# EAGLE library part C64_PLA (library commodore)
Programmable Logic Array This PLA controls which parts of memory are visible to your C64. This lib is created by Ruud Baltissen.
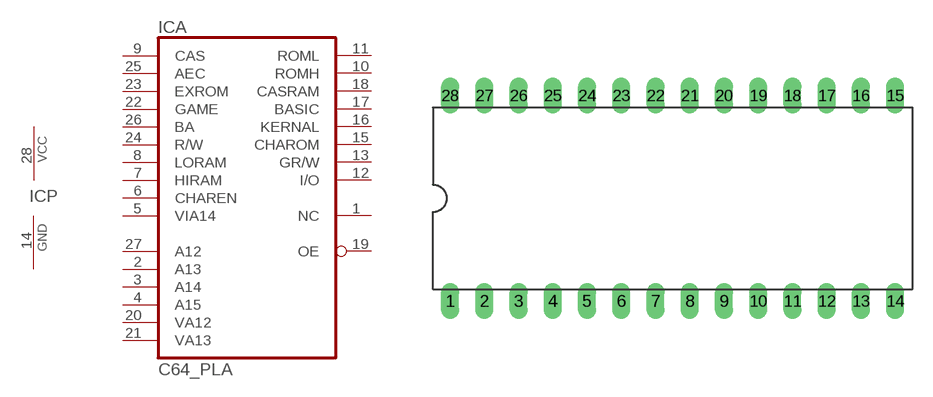
[diagram p24: symbol with the pads of DIL28; footprint DIL28]

Designator prefix IC; gates A=C64_PLA P=PWRN

## C64_PLA  [DIL28]
1  A:NC  nc
2  A:A13  in
3  A:A14  in
4  A:A15  in
5  A:VIA14  in
6  A:CHAREN  in
7  A:HIRAM  in
8  A:LORAM  in
9  A:CAS  in
10  A:ROMH  hiz
11  A:ROML  hiz
12  A:I/O  hiz
13  A:GR/W  hiz
14  P:GND  pwr
15  A:CHAROM  hiz
16  A:KERNAL  hiz
17  A:BASIC  hiz
18  A:CASRAM  hiz
19  A:OE  in
20  A:VA12  in
21  A:VA13  in
22  A:GAME  in
23  A:EXROM  in
24  A:R/W  in
25  A:AEC  in
26  A:BA  in
27  A:A12  in
28  P:VCC  pwr

## Footprint DIL28 (pad centres in mm)
Dual In Line Package
drill 0.813 long: 1 -16.51,-7.62; 2 -13.97,-7.62; 3 -11.43,-7.62; 4 -8.89,-7.62; 5 -6.35,-7.62; 6 -3.81,-7.62; 7 -1.27,-7.62; 8 1.27,-7.62; 9 3.81,-7.62; 10 6.35,-7.62; 11 8.89,-7.62; 12 11.43,-7.62; 13 13.97,-7.62; 14 16.51,-7.62; 15 16.51,7.62; 16 13.97,7.62; 17 11.43,7.62; 18 8.89,7.62; 19 6.35,7.62; 20 3.81,7.62; 21 1.27,7.62; 22 -1.27,7.62; 23 -3.81,7.62; 24 -6.35,7.62; 25 -8.89,7.62; 26 -11.43,7.62; 27 -13.97,7.62; 28 -16.51,7.62